# EAGLE library part PHC2300 (library lfpak.mosfet)
Complementary enhancement mode MOS transistors PHC2300 General description One N-channel and one P-channel enhancement mode Field-Effect Transistor (FET) in a plastic package. This product is designed and qualified for use in computing, communications, consumer and industrial applications only. Features and benefits Suitable for high frequency applications due to fast switching characteristics Applications - High-speed line drivers - Line transformer drivers - Relay drivers - Universal line interface in telephonesets Symbol Parameter Conditions Min Typ Max Unit VDS drain-source N: Tj ≥ 25 °C; Tj ≤ 150 °C; 300 V voltage P: Tj ≥ 25 °C; Tj ≤ 150 °C; 300 V ID drain current Tsp = 80 °C; N-channel - - 340 mA Tsp = 80 °C; P-channel - - 235 mA Ptot total powerdissipation Tsp = 80 °C - - 1.6 W RDSon drain-source VGS = 10 V; ID = 170mA; Tj = 25 °C; N-channel - - 6 Ω on-state resistance VGS = -10 V; ID = -115mA; Tj = 25 °C; P-channel - - 17 Ω
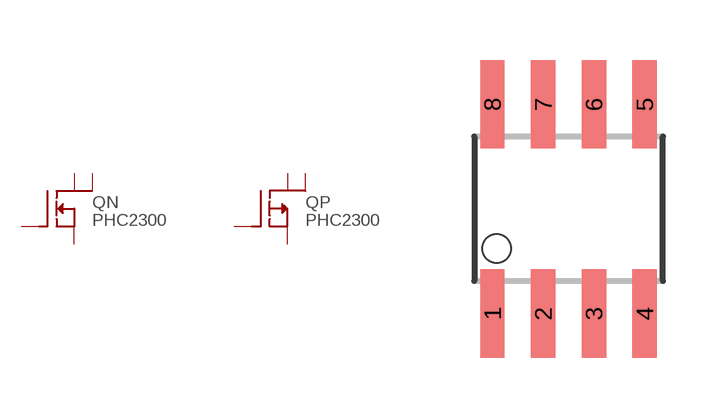
[diagram p9: symbol with the pads of SO08; footprint SO08]

Designator prefix Q; gates N=MOSFET2N P=MOSFET2P

## PHC2300_SO08 (MPN: PHC2300,118; OC_FARNELL: 1758128; PACKAGE: SO08; SUPPLIER: NXP)  [SO08]
1  N:S
2  N:G
3  P:S
4  P:G
5  P:D1
6  P:D
7  N:D1
8  N:D

## Footprint SO08 (pad centres in mm)
Small Outline Package
smd 0.61 x 2.21: 1 -1.905,-2.616; 2 -0.635,-2.616; 3 0.635,-2.616; 4 1.905,-2.616; 5 1.905,2.616; 6 0.635,2.616; 7 -0.635,2.616; 8 -1.905,2.616